# Altium schematic symbol library JMS561.SchLib: 1 symbol
Pins are listed as number, name and electrical type; pins without a type are passive.

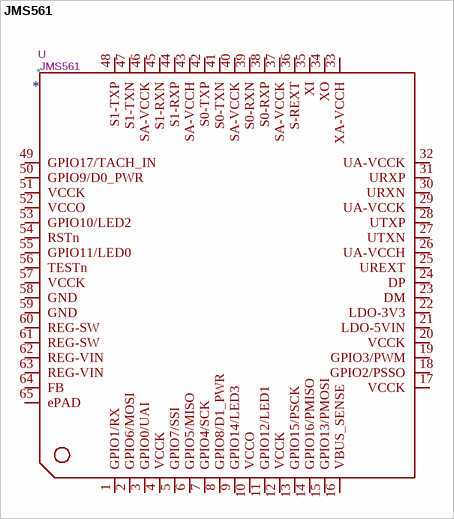
[diagram p0: symbol JMS561]

## JMS561
designator *  value JMS561  Reference: U
JMS561 is a SuperSpeed USB 5Gb/s to dual SATA 6Gb/s bridge controller, which also supports various application configurations.; Footprint: Package_DFN_QFN:QFN-64-1EP_8x8mm_P0.4mm_EP6.5x6.5mm; Description_: JMS561 is a SuperSpeed USB 5Gb/s to dual SATA 6Gb/s bridge controller, which also supports various application configurations.; ki_keywords: Bridge
pins: 1 GPIO1/RX, 2 GPIO6/MOSI, 3 GPIO0/UAI, 4 VCCK, 5 GPIO7/SSI, 6 GPIO5/MISO, 7 GPIO4/SCK, 8 GPIO8/D1_PWR, 9 GPIO14/LED3, 10 VCCO, 11 GPIO12/LED1, 12 VCCK, 13 GPIO15/PSCK, 14 GPIO16/PMISO, 15 GPIO13/PMOSI, 16 VBUS_SENSE, 17 VCCK, 18 GPIO2/PSSO, 19 GPIO3/PWM, 20 VCCK, 21 LDO-5VIN, 22 LDO-3V3, 23 DM, 24 DP, 25 UREXT, 26 UA-VCCH, 27 UTXN, 28 UTXP, 29 UA-VCCK, 30 URXN, 31 URXP, 32 UA-VCCK, 33 XA-VCCH, 34 XO, 35 XI, 36 S-REXT, 37 SA-VCCK, 38 S0-RXP, 39 S0-RXN, 40 SA-VCCK, 41 S0-TXN, 42 S0-TXP, 43 SA-VCCH, 44 S1-RXP, 45 S1-RXN, 46 SA-VCCK, 47 S1-TXN, 48 S1-TXP, 49 GPIO17/TACH_IN, 50 GPIO9/D0_PWR, 51 VCCK, 52 VCCO, 53 GPIO10/LED2, 54 RSTn, 55 GPIO11/LED0, 56 TESTn, 57 VCCK, 58 GND, 59 GND, 60 REG-SW, 61 REG-SW, 62 REG-VIN, 63 REG-VIN, 64 FB, 65 ePAD